# Altium schematic symbol library LM4041QEEM3X.Schlib: 1 symbol
Pins are listed as number, name and electrical type; pins without a type are passive.

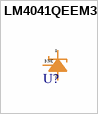
[diagram p0: symbol LM4041QEEM3X]

## LM4041QEEM3X
designator U?
Micropower Shunt Voltage Reference 1.225V
pins: 1, 2, 3
text: 3 NC